# Altium footprint library OP_AMP.PcbLib: 1 footprints
Each footprint in its own frame and in the unit in brackets; x right, y up, seen from the top. Pads: shape width x height; smd on the part's side, far side on the other; paste and mask are expansions set on the pad; w line width, h text height; cw(c..) or ccw(c..) is an arc to the next point about the centre after c.
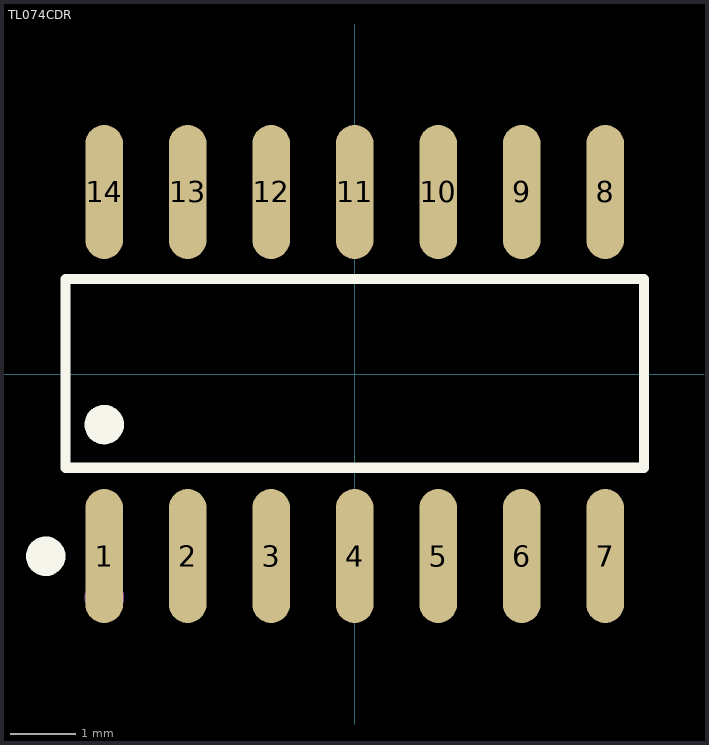
[diagram p0: the footprint, top view; thin cyan lines are the x and y axes]

## TL074CDR [mil]
pads (14):
  oval 22.6x80.24 smd paste+0 mask+2: 1(-150,-109.02) 2(-100,-109.02) 3(-50,-109.02) 4(0,-109.02) 5(50,-109.02) 6(100,-109.02) 7(150,-109.02) 8(150,109.02) 9(100,109.02) 10(50,109.02) 11(0,109.02) 12(-50,109.02) 13(-100,109.02) 14(-150,109.02)
Top Overlay:
  circle w11.81: c-150,-30.28 r5.91
  circle w11.81: c-185.02,-109.13 r5.91
  lines w6: -173.28,-56.13 -173.28,56.87 173.28,56.87 173.28,-56.13 -173.28,-56.13
Mechanical 15:
  circle w11.81: c-150,-133.86 r5.91
3D body "soic-14.STEP": height 62.89, standoff -0.5, extent -170,-120 170,118